# EAGLE library part ES_KEYBOARD_SM (library Electrosmith-Boards)
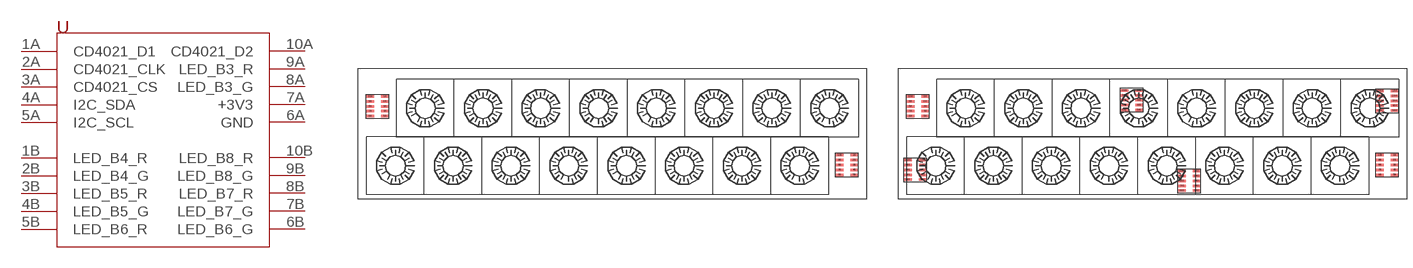
[diagram p18: symbol with the pads of ES_KEYBOARD_SM; footprints ES_KEYBOARD_SM, ES_KEYBOARD_SM_REV2]

Designator prefix U

## ES_KEYBOARD_SM  [ES_KEYBOARD_SM]
1A  CD4021_D1
1B  LED_B4_R
2A  CD4021_CLK
2B  LED_B4_G
3A  CD4021_CS
3B  LED_B5_R
4A  I2C_SDA
4B  LED_B5_G
5A  I2C_SCL
5B  LED_B6_R
6A  GND
6B  LED_B6_G
7A  +3V3
7B  LED_B7_G
8A  LED_B3_G
8B  LED_B7_R
9A  LED_B3_R
9B  LED_B8_G
10A  CD4021_D2
10B  LED_B8_R

## ES_KEYBOARD_SMREV2  [ES_KEYBOARD_SM_REV2]
Pads as for ES_KEYBOARD_SM

## ES_KEYBOARD_SM_REV2_ALIGNED  [ES_KEYBOARD_SM_REV2_ALIGNED]
Pads as for ES_KEYBOARD_SM

## Footprint ES_KEYBOARD_SM (pad centres in mm)
smd 1.98 x 0.65: 1A -59.095,9.67; 1B 62.825,-5.57; 2A -59.095,8.4; 2B 62.825,-6.84; 3A -59.095,7.13; 3B 62.825,-8.11; 4A -59.095,5.86; 4B 62.825,-9.38; 5A -59.095,4.59; 5B 62.825,-10.65; 6A -62.905,4.59; 6B 59.015,-10.65; 7A -62.905,5.86; 7B 59.015,-9.38; 8A -62.905,7.13; 8B 59.015,-8.11; 9A -62.905,8.4; 9B 59.015,-6.84; 10A -62.905,9.67; 10B 59.015,-5.57

## Footprint ES_KEYBOARD_SM_REV2 (pad centres in mm)
smd 1.98 x 0.65: 1A -59.015,9.67; 1A1 -59.65,-6.84; 1A2 -3.453,11.258; 1A3 11.47,-9.697; 1A4 62.905,11.098; 1B 62.905,-5.57; 2A -59.015,8.4; 2A1 -59.65,-8.11; 2A2 -3.453,9.988; 2A3 11.47,-10.967; 2A4 62.905,9.828; 2B 62.905,-6.84; 3A -59.015,7.13; 3A1 -59.65,-9.38; 3A2 -3.453,8.717; 3A3 11.47,-12.238; 3A4 62.905,8.558; 3B 62.905,-8.11; 4A -59.015,5.86; 4A1 -59.65,-10.65; 4A2 -3.453,7.447; 4A3 11.47,-13.508; 4A4 62.905,7.288; 4B 62.905,-9.38; 5A -59.015,4.59; 5A1 -59.65,-11.92; 5A2 -3.453,6.178; 5A3 11.47,-14.777; 5A4 62.905,6.018; 5B 62.905,-10.65; 6A -62.825,4.59; 6A1 -63.46,-11.92; 6A2 -7.263,6.178; 6A3 7.66,-14.777; 6A4 59.095,6.018; 6B 59.095,-10.65; 7A -62.825,5.86; 7A1 -63.46,-10.65; 7A2 -7.263,7.447; 7A3 7.66,-13.508; 7A4 59.095,7.288; 7B 59.095,-9.38; 8A -62.825,7.13; 8A1 -63.46,-9.38; 8A2 -7.263,8.717; 8A3 7.66,-12.238; 8A4 59.095,8.558; 8B 59.095,-8.11; 9A -62.825,8.4; 9A1 -63.46,-8.11; 9A2 -7.263,9.988; 9A3 7.66,-10.967; 9A4 59.095,9.828; 9B 59.095,-6.84; 10A -62.825,9.67; 10A1 -63.46,-6.84; 10A2 -7.263,11.258; 10A3 7.66,-9.697; 10A4 59.095,11.098; 10B 59.095,-5.57

## Footprint ES_KEYBOARD_SM_REV2_ALIGNED (pad centres in mm)
smd 1.98 x 0.65: 1A -59.015,9.67; 1A1 -59.65,-6.84; 1A2 -3.453,11.258; 1A3 11.47,-9.697; 1A4 62.905,11.098; 1B 62.905,-5.57; 2A -59.015,8.4; 2A1 -59.65,-8.11; 2A2 -3.453,9.988; 2A3 11.47,-10.967; 2A4 62.905,9.828; 2B 62.905,-6.84; 3A -59.015,7.13; 3A1 -59.65,-9.38; 3A2 -3.453,8.717; 3A3 11.47,-12.238; 3A4 62.905,8.558; 3B 62.905,-8.11; 4A -59.015,5.86; 4A1 -59.65,-10.65; 4A2 -3.453,7.447; 4A3 11.47,-13.508; 4A4 62.905,7.288; 4B 62.905,-9.38; 5A -59.015,4.59; 5A1 -59.65,-11.92; 5A2 -3.453,6.178; 5A3 11.47,-14.777; 5A4 62.905,6.018; 5B 62.905,-10.65; 6A -62.825,4.59; 6A1 -63.46,-11.92; 6A2 -7.263,6.178; 6A3 7.66,-14.777; 6A4 59.095,6.018; 6B 59.095,-10.65; 7A -62.825,5.86; 7A1 -63.46,-10.65; 7A2 -7.263,7.447; 7A3 7.66,-13.508; 7A4 59.095,7.288; 7B 59.095,-9.38; 8A -62.825,7.13; 8A1 -63.46,-9.38; 8A2 -7.263,8.717; 8A3 7.66,-12.238; 8A4 59.095,8.558; 8B 59.095,-8.11; 9A -62.825,8.4; 9A1 -63.46,-8.11; 9A2 -7.263,9.988; 9A3 7.66,-10.967; 9A4 59.095,9.828; 9B 59.095,-6.84; 10A -62.825,9.67; 10A1 -63.46,-6.84; 10A2 -7.263,11.258; 10A3 7.66,-9.697; 10A4 59.095,11.098; 10B 59.095,-5.57